# Altium schematic symbol library REF1930AIDDCR.SchLib: 2 symbols
Pins are listed as number, name and electrical type; pins without a type are passive.

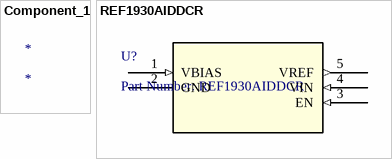
[diagram p0: symbols Component_1 to REF1930AIDDCR]

## Component_1
designator *

## REF1930AIDDCR
designator U?, comment Part Number: REF1930AIDDCR
No Description Available; Vendor: Texas Instruments; Built_By: EMA_UL_Team; Manufacturer_Part_Number: REF1930AIDDCR; Copyright: Copyright (C) 2018 Accelerated Designs. All rights reserved; RefDes: RefDes; Type: DEV; Value: Value
footprint DDC5
pins: 1 VBIAS (in), 2 GND (power), 3 EN (in), 4 VIN (in), 5 VREF (out)